# EAGLE library part TBP02R1-381-07BE (library TBP02R1-381-07BE)
Check prices <https://pricing.snapeda.com/parts/TBP02R1-381-07BE/CUI%20Devices/view-part?ref=eda>
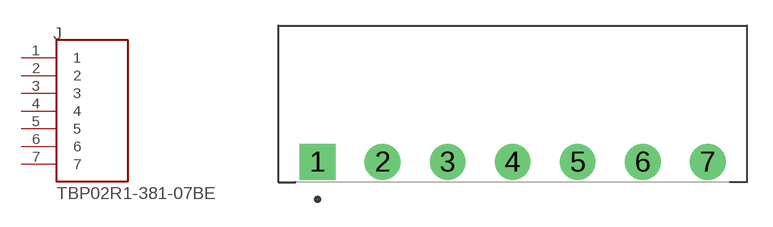
[diagram p0: symbol with the pads of CUI_TBP02R1-381-07BE; footprint CUI_TBP02R1-381-07BE]

Designator prefix J

## TBP02R1-381-07BE (Availability: In Stock; CUI_purchase_URL: https://www.cuidevices.com/product/interconnect/connectors/terminal-blocks/tbp02r1-381-series?utm_source=snapeda.com&utm_medium=referral&utm_campaign=snapedaBOM; Description: 2~24 Poles, Pluggable,Receptacle, Horizontal, 3.81 Pitch, Terminal Block Connector; MF: CUI Devices; MP: TBP02R1-381-07BE; Package: None; Price: None; Purchase-URL: https://pricing.snapeda.com/search/part/TBP02R1-381-07BE/?ref=eda)  [CUI_TBP02R1-381-07BE]
1  1  pas
2  2  pas
3  3  pas
4  4  pas
5  5  pas
6  6  pas
7  7  pas

## Footprint CUI_TBP02R1-381-07BE (pad centres in mm)
drill 1.4 square: 1 0,0
drill 1.4: 2 3.81,0; 3 7.62,0; 4 11.43,0; 5 15.24,0; 6 19.05,0; 7 22.86,0